# EAGLE library part BREADBOARD_FRIENDLY_RGB_SMART_NEOPIXEL_PACK_OF_4 (library Adafruit)
Breadboard-friendly RGB Smart NeoPixel - Pack of 4 Breadboard-friendly RGB Smart NeoPixel - Pack of 4 Further information:http://adafru.it/1312 Cost:$7.95
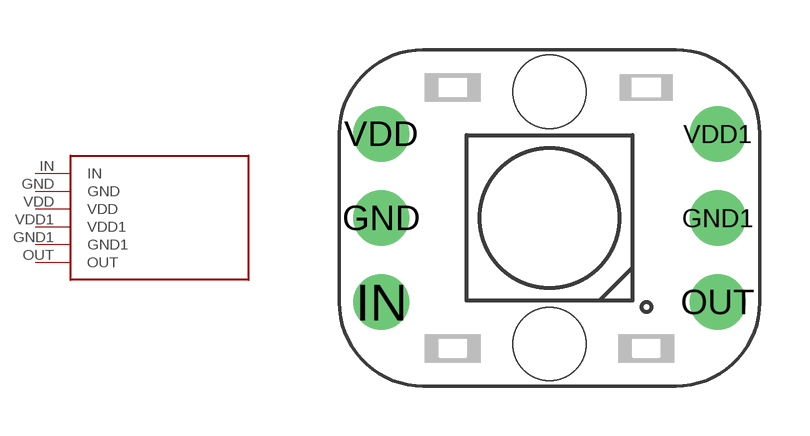
[diagram p3: symbol with the pads of BREADBOARD_FRIENDLY_RGB_SMART_NEOPIXEL_PACK_OF_4; footprint BREADBOARD_FRIENDLY_RGB_SMART_NEOPIXEL_PACK_OF_4]

Designator prefix -

## BREADBOARD_FRIENDLY_RGB_SMART_NEOPIXEL_PACK_OF_4-BOB  [BREADBOARD_FRIENDLY_RGB_SMART_NEOPIXEL_PACK_OF_4]
GND  GND
GND1  GND1
IN  IN
OUT  OUT
VDD  VDD
VDD1  VDD1

## Footprint BREADBOARD_FRIENDLY_RGB_SMART_NEOPIXEL_PACK_OF_4 (pad centres in mm)
drill 1.016 pad 1.676: GND -5.08,0; GND1 5.08,0; IN -5.08,-2.54; OUT 5.08,-2.54; VDD -5.08,2.54; VDD1 5.08,2.54
hole 2.2 at 0,3.81
hole 2.2 at 0,-3.81